# Altium integrated library Infineon_Microcontroller.IntLib: 721 symbols (part 45 of 66)
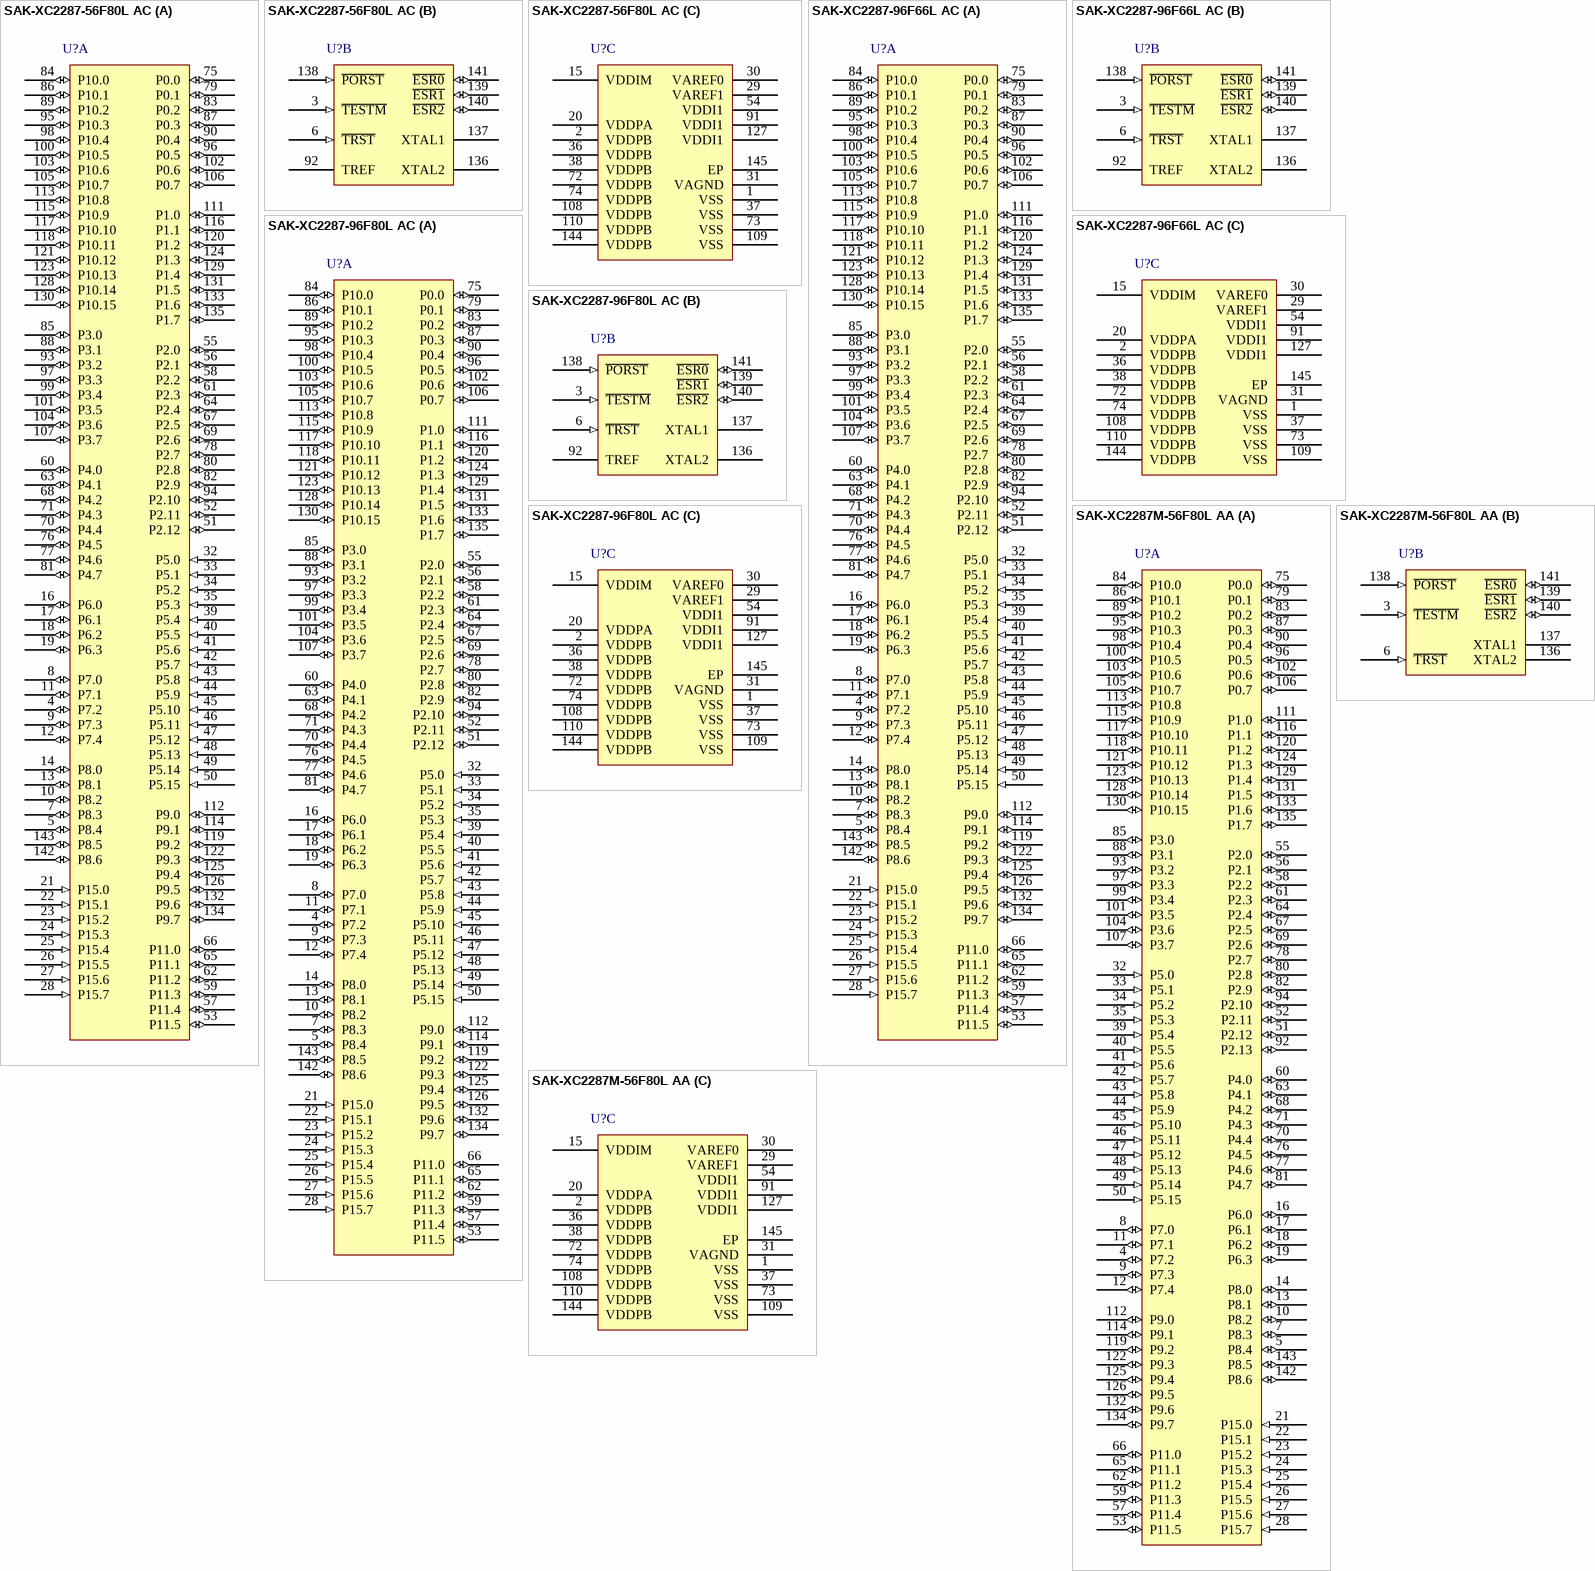
[diagram p162: symbols SAK-XC2287-56F80L AC to SAK-XC2287M-56F80L AA]

## SAK-XC2287-96F66L AC
designator U?
66 MHz XC2200 MCU with 768 KByte Program Memory, 82 KByte SRAM, 3 V, 5.5 V, -40 to 125 degC, PG-LQFP-144, Reel, Green; Manufacturer: Infineon; PartNumber: SAK-XC2287-96F66L AC; A / D input lines (incl. FADC): 24; CAN Nodes: 5; Digital I/O Lines: 118; DMA Channels: 8; DSP functionality (e.g MDU/MAC): TRUE; FlexRay TM: FALSE; Instruction width [bits]: 16/32; Max Clock Frequency: 66 MHz; Number of ADC Modules: 2; Power Modes: 3; Serial I/O Interfaces: 6; Timed I/O Pins (PWM-Ch,CAPCOM): 44; Timer / Counter: 15; Type of Memory: Flash; Type of Serial I/O Interfaces: SPI(6), LIN, UART, I2C, I2S; DatasheetVersion: Rev. 2.1; PackageVersion: V2.1, 08/2008; PackageReference: PG-LQFP-144-4; PackageDescription: 144-Pin Plastic Green Thin Quad Flat Package, Body 20 x 20 mm, Pitch 0.5 mm; Supplier 1: Digi-Key; Supplier Part Number 1: SAK-XC2287-96F66L AC-ND; E2PROM Emulation (Data-Flash): TRUE; External Bus interface: TRUE; Green: TRUE; Halogen-free: TRUE; I/O Operation Voltages: 3 V, 5.5 V; On-chip clock generation: TRUE; On-chip Voltage Regulator: TRUE; Oscillator Watchdog: TRUE; Packing: Reel; Program Memory: 768 KByte; Real Time Clock (RTC): TRUE; SRAM (incl. Cache): 82 KByte; Watchdog Timer: TRUE; Mounting Technology: Surface Mount; ComponentLink1Description: Manufacturer URL; ComponentLink1URL: http://www.infineon.com/; ComponentLink2Description: Datasheet; ComponentLink2URL: http://www.infineon.com/dgdl/xc228x_ds_v2.1_2008_08.pdf?folderId=db3a304412b407950112b408e8c90004&fileId=db3a304412b407950112b40937b40162; ComponentLink3Description: Package Specification; ComponentLink3URL: http://www.infineon.com/dgdl/xc228x_ds_v2.1_2008_08.pdf?folderId=db3a304412b407950112b408e8c90004&fileId=db3a304412b407950112b40937b40162&sId=db3a30433d956bc3013d9bbb42cd14dc
footprint INF-PG-LQFP-144-4_N (QFP, 144-Leads, Body 20x20mm, Pitch 0.5mm, Thermal Pad 6.5x6.5mm, IPC Medium Density)
footprint INF-PG-LQFP-144-4_L (QFP, 144-Leads, Body 20x20mm, Pitch 0.5mm, Thermal Pad 6.5x6.5mm, IPC High Density)
footprint INF-PG-LQFP-144-4_M (QFP, 144-Leads, Body 20x20mm, Pitch 0.5mm, Thermal Pad 6.5x6.5mm, IPC Low Density)
part A pins: 4 P7.2 (io), 5 P8.4 (io), 7 P8.3 (io), 8 P7.0 (io), 9 P7.3 (io), 10 P8.2 (io), 11 P7.1 (io), 12 P7.4 (io), 13 P8.1 (io), 14 P8.0 (io), 16 P6.0 (io), 17 P6.1 (io), 18 P6.2 (io), 19 P6.3 (io), 21 P15.0 (in), 22 P15.1 (in), 23 P15.2 (in), 24 P15.3 (in), 25 P15.4 (in), 26 P15.5 (in), 27 P15.6 (in), 28 P15.7 (in), 32 P5.0 (in), 33 P5.1 (in), 34 P5.2 (in), 35 P5.3 (in), 39 P5.4 (in), 40 P5.5 (in), 41 P5.6 (in), 42 P5.7 (in), 43 P5.8 (in), 44 P5.9 (in), 45 P5.10 (in), 46 P5.11 (in), 47 P5.12 (in), 48 P5.13 (in), 49 P5.14 (in), 50 P5.15 (in), 51 P2.12 (io), 52 P2.11 (io), 53 P11.5 (io) "Bit 5 of Port 11, General Purpose Input/Output", 55 P2.0 (io), 56 P2.1 (io), 57 P11.4 (io) "Bit 4 of Port 11, General Purpose Input/Output", 58 P2.2 (io), 59 P11.3 (io) "Bit 3 of Port 11, General Purpose Input/Output", 60 P4.0 (io), 61 P2.3 (io), 62 P11.2 (io), 63 P4.1 (io), 64 P2.4 (io), 65 P11.1 (io), 66 P11.0 (io), 67 P2.5 (io), 68 P4.2 (io), 69 P2.6 (io), 70 P4.4 (io), 71 P4.3 (io), 75 P0.0 (io), 76 P4.5 (io), 77 P4.6 (io), 78 P2.7 (io), 79 P0.1 (io), 80 P2.8 (io), 81 P4.7 (io), 82 P2.9 (io), 83 P0.2 (io), 84 P10.0 (io), 85 P3.0 (io), 86 P10.1 (io), 87 P0.3 (io), 88 P3.1 (io), 89 P10.2 (io), 90 P0.4 (io), 93 P3.2 (io), 94 P2.10 (io), 95 P10.3 (io), 96 P0.5 (io), 97 P3.3 (io), 98 P10.4 (io), 99 P3.4 (io), 100 P10.5 (io), 101 P3.5 (io), 102 P0.6 (io), 103 P10.6 (io), 104 P3.6 (io), 105 P10.7 (io), 106 P0.7 (io), 107 P3.7 (io), 111 P1.0 (io), 112 P9.0 (io), 113 P10.8 (io), 114 P9.1 (io), 115 P10.9 (io), 116 P1.1 (io), 117 P10.10 (io), 118 P10.11 (io), 119 P9.2 (io), 120 P1.2 (io), 121 P10.12 (io), 122 P9.3 (io), 123 P10.13 (io), 124 P1.3 (io), 125 P9.4 (io), 126 P9.5 (io), 128 P10.14 (io), 129 P1.4 (io), 130 P10.15 (io), 131 P1.5 (io), 132 P9.6 (io), 133 P1.6 (io), 134 P9.7 (io), 135 P1.7 (io), 142 P8.6 (io), 143 P8.5 (io)
part B pins: 3 ~{TESTM} (in) "Testmode Enable", 6 ~{TRST} (in) "Test-System Reset Input", 92 TREF "Control Pin for Core Voltage Generation", 136 XTAL2 "Crystal Oscillator Amplifier Output", 137 XTAL1 "Crystal Oscillator Amplifier Input", 138 ~{PORST} (in) "Power On Reset Input", 139 ~{ESR1} (io), 140 ~{ESR2} (io), 141 ~{ESR0} (io)
part C pins: 1 VSS (power) "Digital Ground", 2 VDDPB (power) "Digital Pad Supply Voltage for Domain B", 15 VDDIM (power) "Digital Core Supply Voltage for Domain M", 20 VDDPA (power) "Digital Pad Supply Voltage for Domain A", 29 VAREF1 (power) "Reference Voltage for A/D Converter ADC1", 30 VAREF0 (power) "Reference Voltage for A/D Converter ADC0", 31 VAGND (power) "Reference Ground for A/D Converters ADC0/1", 36 VDDPB (power) "Digital Pad Supply Voltage for Domain B", 37 VSS (power) "Digital Ground", 38 VDDPB (power) "Digital Pad Supply Voltage for Domain B", 54 VDDI1 (power) "Digital Core Supply Voltage for Domain 1", 72 VDDPB (power) "Digital Pad Supply Voltage for Domain B", 73 VSS (power) "Digital Ground", 74 VDDPB (power) "Digital Pad Supply Voltage for Domain B", 91 VDDI1 (power) "Digital Core Supply Voltage for Domain 1", 108 VDDPB (power) "Digital Pad Supply Voltage for Domain B", 109 VSS (power) "Digital Ground", 110 VDDPB (power) "Digital Pad Supply Voltage for Domain B", 127 VDDI1 (power) "Digital Core Supply Voltage for Domain 1", 144 VDDPB (power) "Digital Pad Supply Voltage for Domain B", 145 EP (power)

## SAK-XC2287-96F80L AC
designator U?
80 MHz XC2200 MCU with 768 KByte Program Memory, 82 KByte SRAM, 3 V, 5.5 V, -40 to 125 degC, PG-LQFP-144, Reel, Green; Manufacturer: Infineon; PartNumber: SAK-XC2287-96F80L AC; A / D input lines (incl. FADC): 24; CAN Nodes: 5; Digital I/O Lines: 118; DMA Channels: 8; DSP functionality (e.g MDU/MAC): TRUE; FlexRay TM: FALSE; Instruction width [bits]: 16/32; Max Clock Frequency: 80 MHz; Number of ADC Modules: 2; Power Modes: 3; Serial I/O Interfaces: 6; Timed I/O Pins (PWM-Ch,CAPCOM): 32; Timer / Counter: 15; Type of Memory: Flash; Type of Serial I/O Interfaces: SPI(6), LIN, UART, I2C, I2S; DatasheetVersion: Rev. 2.1; PackageVersion: V2.1, 08/2008; PackageReference: PG-LQFP-144-4; PackageDescription: 144-Pin Plastic Green Thin Quad Flat Package, Body 20 x 20 mm, Pitch 0.5 mm; Supplier 1: Mouser; Supplier Part Number 1: 726-AKXC228796F80LAC; Supplier 2: Digi-Key; Supplier Part Number 2: SAK-XC2287-96F80L AC-ND; E2PROM Emulation (Data-Flash): TRUE; External Bus interface: TRUE; Green: TRUE; Halogen-free: TRUE; I/O Operation Voltages: 3 V, 5.5 V; On-chip clock generation: TRUE; On-chip Voltage Regulator: TRUE; Oscillator Watchdog: TRUE; Packing: Reel; Program Memory: 768 KByte; Real Time Clock (RTC): TRUE; SRAM (incl. Cache): 82 KByte; Watchdog Timer: TRUE; Mounting Technology: Surface Mount; ComponentLink1Description: Manufacturer URL; ComponentLink1URL: http://www.infineon.com/; ComponentLink2Description: Datasheet; ComponentLink2URL: http://www.infineon.com/dgdl/xc228x_ds_v2.1_2008_08.pdf?folderId=db3a304412b407950112b408e8c90004&fileId=db3a304412b407950112b40937b40162; ComponentLink3Description: Package Specification; ComponentLink3URL: http://www.infineon.com/dgdl/xc228x_ds_v2.1_2008_08.pdf?folderId=db3a304412b407950112b408e8c90004&fileId=db3a304412b407950112b40937b40162&sId=db3a30433d956bc3013d9bbb42cd14dc
footprint INF-PG-LQFP-144-4_N (QFP, 144-Leads, Body 20x20mm, Pitch 0.5mm, Thermal Pad 6.5x6.5mm, IPC Medium Density)
footprint INF-PG-LQFP-144-4_L (QFP, 144-Leads, Body 20x20mm, Pitch 0.5mm, Thermal Pad 6.5x6.5mm, IPC High Density)
footprint INF-PG-LQFP-144-4_M (QFP, 144-Leads, Body 20x20mm, Pitch 0.5mm, Thermal Pad 6.5x6.5mm, IPC Low Density)
part A pins: 4 P7.2 (io), 5 P8.4 (io), 7 P8.3 (io), 8 P7.0 (io), 9 P7.3 (io), 10 P8.2 (io), 11 P7.1 (io), 12 P7.4 (io), 13 P8.1 (io), 14 P8.0 (io), 16 P6.0 (io), 17 P6.1 (io), 18 P6.2 (io), 19 P6.3 (io), 21 P15.0 (in), 22 P15.1 (in), 23 P15.2 (in), 24 P15.3 (in), 25 P15.4 (in), 26 P15.5 (in), 27 P15.6 (in), 28 P15.7 (in), 32 P5.0 (in), 33 P5.1 (in), 34 P5.2 (in), 35 P5.3 (in), 39 P5.4 (in), 40 P5.5 (in), 41 P5.6 (in), 42 P5.7 (in), 43 P5.8 (in), 44 P5.9 (in), 45 P5.10 (in), 46 P5.11 (in), 47 P5.12 (in), 48 P5.13 (in), 49 P5.14 (in), 50 P5.15 (in), 51 P2.12 (io), 52 P2.11 (io), 53 P11.5 (io) "Bit 5 of Port 11, General Purpose Input/Output", 55 P2.0 (io), 56 P2.1 (io), 57 P11.4 (io) "Bit 4 of Port 11, General Purpose Input/Output", 58 P2.2 (io), 59 P11.3 (io) "Bit 3 of Port 11, General Purpose Input/Output", 60 P4.0 (io), 61 P2.3 (io), 62 P11.2 (io), 63 P4.1 (io), 64 P2.4 (io), 65 P11.1 (io), 66 P11.0 (io), 67 P2.5 (io), 68 P4.2 (io), 69 P2.6 (io), 70 P4.4 (io), 71 P4.3 (io), 75 P0.0 (io), 76 P4.5 (io), 77 P4.6 (io), 78 P2.7 (io), 79 P0.1 (io), 80 P2.8 (io), 81 P4.7 (io), 82 P2.9 (io), 83 P0.2 (io), 84 P10.0 (io), 85 P3.0 (io), 86 P10.1 (io), 87 P0.3 (io), 88 P3.1 (io), 89 P10.2 (io), 90 P0.4 (io), 93 P3.2 (io), 94 P2.10 (io), 95 P10.3 (io), 96 P0.5 (io), 97 P3.3 (io), 98 P10.4 (io), 99 P3.4 (io), 100 P10.5 (io), 101 P3.5 (io), 102 P0.6 (io), 103 P10.6 (io), 104 P3.6 (io), 105 P10.7 (io), 106 P0.7 (io), 107 P3.7 (io), 111 P1.0 (io), 112 P9.0 (io), 113 P10.8 (io), 114 P9.1 (io), 115 P10.9 (io), 116 P1.1 (io), 117 P10.10 (io), 118 P10.11 (io), 119 P9.2 (io), 120 P1.2 (io), 121 P10.12 (io), 122 P9.3 (io), 123 P10.13 (io), 124 P1.3 (io), 125 P9.4 (io), 126 P9.5 (io), 128 P10.14 (io), 129 P1.4 (io), 130 P10.15 (io), 131 P1.5 (io), 132 P9.6 (io), 133 P1.6 (io), 134 P9.7 (io), 135 P1.7 (io), 142 P8.6 (io), 143 P8.5 (io)
part B pins: 3 ~{TESTM} (in) "Testmode Enable", 6 ~{TRST} (in) "Test-System Reset Input", 92 TREF "Control Pin for Core Voltage Generation", 136 XTAL2 "Crystal Oscillator Amplifier Output", 137 XTAL1 "Crystal Oscillator Amplifier Input", 138 ~{PORST} (in) "Power On Reset Input", 139 ~{ESR1} (io), 140 ~{ESR2} (io), 141 ~{ESR0} (io)
part C pins: 1 VSS (power) "Digital Ground", 2 VDDPB (power) "Digital Pad Supply Voltage for Domain B", 15 VDDIM (power) "Digital Core Supply Voltage for Domain M", 20 VDDPA (power) "Digital Pad Supply Voltage for Domain A", 29 VAREF1 (power) "Reference Voltage for A/D Converter ADC1", 30 VAREF0 (power) "Reference Voltage for A/D Converter ADC0", 31 VAGND (power) "Reference Ground for A/D Converters ADC0/1", 36 VDDPB (power) "Digital Pad Supply Voltage for Domain B", 37 VSS (power) "Digital Ground", 38 VDDPB (power) "Digital Pad Supply Voltage for Domain B", 54 VDDI1 (power) "Digital Core Supply Voltage for Domain 1", 72 VDDPB (power) "Digital Pad Supply Voltage for Domain B", 73 VSS (power) "Digital Ground", 74 VDDPB (power) "Digital Pad Supply Voltage for Domain B", 91 VDDI1 (power) "Digital Core Supply Voltage for Domain 1", 108 VDDPB (power) "Digital Pad Supply Voltage for Domain B", 109 VSS (power) "Digital Ground", 110 VDDPB (power) "Digital Pad Supply Voltage for Domain B", 127 VDDI1 (power) "Digital Core Supply Voltage for Domain 1", 144 VDDPB (power) "Digital Pad Supply Voltage for Domain B", 145 EP (power)

## SAK-XC2287M-56F80L AA
designator U?
80 MHz XC2200 MCU with 448 KByte Program Memory, 50 KByte SRAM, 3 V, 5.5 V, -40 to 125 degC, PG-LQFP-144, Reel, Green; Manufacturer: Infineon; PartNumber: SAK-XC2287M-56F80L AA; A / D input lines (incl. FADC): 24; CAN Nodes: 6; Digital I/O Lines: 118; DMA Channels: 8; DSP functionality (e.g MDU/MAC): TRUE; FlexRay TM: FALSE; Instruction width [bits]: 16/32; Max Clock Frequency: 80 MHz; Number of ADC Modules: 2; Power Modes: 3; Timed I/O Pins (PWM-Ch,CAPCOM): up to 44; Timer / Counter: 17; Type of Memory: Flash; Type of Serial I/O Interfaces: SPI(8), LIN, UART, I2C, I2S; DatasheetVersion: Rev. 2.1; PackageVersion: V2.1, 07/2011; PackageReference: PG-LQFP-144-13; PackageDescription: 144-Pin Plastic Green Thin Quad Flat Package, Body 20 x 20 mm, Pitch 0.5 mm; E2PROM Emulation (Data-Flash): TRUE; External Bus interface: TRUE; Green: TRUE; Halogen-free: FALSE; I/O Operation Voltages: 3 V, 5.5 V; On-chip clock generation: TRUE; On-chip Voltage Regulator: TRUE; Oscillator Watchdog: TRUE; Program Memory: 448 KByte; Real Time Clock (RTC): TRUE; Serial I/O Interfaces: 8; SRAM (incl. Cache): 50 KByte; Watchdog Timer: TRUE; Mounting Technology: Surface Mount; Code_JEDEC: J-STD-020C; ComponentLink1Description: Manufacturer URL; ComponentLink1URL: http://www.infineon.com/; ComponentLink2Description: Datasheet; ComponentLink2URL: http://www.infineon.com/dgdl/xc228xm_ds_v2.1_2011_07.pdf?folderId=db3a3043132679fb01133eb909a307c3&fileId=db3a30433580b371013581432e5e006b; ComponentLink3Description: Package Specification; ComponentLink3URL: http://www.infineon.com/dgdl/xc238xa_ds_v2+1_2011_07.pdf?folderId=db3a304412b407950112b409d4b00386&fileId=db3a3043353fdc16013557e024517b1e&sId=db3a30443d98b7f0013d9b8ad537024b
footprint INF-PG-LQFP-144-13_N (QFP, 144-Leads, Body 20x20mm, Pitch 0.5mm, Thermal Pad 6.5x6.5mm, IPC Medium Density)
footprint INF-PG-LQFP-144-13_L (QFP, 144-Leads, Body 20x20mm, Pitch 0.5mm, Thermal Pad 6.5x6.5mm, IPC High Density)
footprint INF-PG-LQFP-144-13_M (QFP, 144-Leads, Body 20x20mm, Pitch 0.5mm, Thermal Pad 6.5x6.5mm, IPC Low Density)
part A pins: 4 P7.2 (io), 5 P8.4 (io), 7 P8.3 (io), 8 P7.0 (io), 9 P7.3 (io), 10 P8.2 (io), 11 P7.1 (io), 12 P7.4 (io), 13 P8.1 (io), 14 P8.0 (io), 16 P6.0 (io), 17 P6.1 (io), 18 P6.2 (io), 19 P6.3 (io), 21 P15.0 (in), 22 P15.1 (in), 23 P15.2 (in), 24 P15.3 (in), 25 P15.4 (in), 26 P15.5 (in), 27 P15.6 (in), 28 P15.7 (in), 32 P5.0 (in), 33 P5.1 (in), 34 P5.2 (in), 35 P5.3 (in), 39 P5.4 (in), 40 P5.5 (in), 41 P5.6 (in), 42 P5.7 (in), 43 P5.8 (in), 44 P5.9 (in), 45 P5.10 (in), 46 P5.11 (in), 47 P5.12 (in), 48 P5.13 (in), 49 P5.14 (in), 50 P5.15 (in), 51 P2.12 (io), 52 P2.11 (io), 53 P11.5 (io), 55 P2.0 (io), 56 P2.1 (io), 57 P11.4 (io), 58 P2.2 (io), 59 P11.3 (io), 60 P4.0 (io), 61 P2.3 (io), 62 P11.2 (io), 63 P4.1 (io), 64 P2.4 (io), 65 P11.1 (io), 66 P11.0 (io), 67 P2.5 (io), 68 P4.2 (io), 69 P2.6 (io), 70 P4.4 (io), 71 P4.3 (io), 75 P0.0 (io), 76 P4.5 (io), 77 P4.6 (io), 78 P2.7 (io), 79 P0.1 (io), 80 P2.8 (io), 81 P4.7 (io), 82 P2.9 (io), 83 P0.2 (io), 84 P10.0 (io), 85 P3.0 (io), 86 P10.1 (io), 87 P0.3 (io), 88 P3.1 (io), 89 P10.2 (io), 90 P0.4 (io), 92 P2.13 (io), 93 P3.2 (io), 94 P2.10 (io), 95 P10.3 (io), 96 P0.5 (io), 97 P3.3 (io), 98 P10.4 (io), 99 P3.4 (io), 100 P10.5 (io), 101 P3.5 (io), 102 P0.6 (io), 103 P10.6 (io), 104 P3.6 (io), 105 P10.7 (io), 106 P0.7 (io), 107 P3.7 (io), 111 P1.0 (io), 112 P9.0 (io), 113 P10.8 (io), 114 P9.1 (io), 115 P10.9 (io), 116 P1.1 (io), 117 P10.10 (io), 118 P10.11 (io), 119 P9.2 (io), 120 P1.2 (io), 121 P10.12 (io), 122 P9.3 (io), 123 P10.13 (io), 124 P1.3 (io), 125 P9.4 (io), 126 P9.5 (io), 128 P10.14 (io), 129 P1.4 (io), 130 P10.15 (io), 131 P1.5 (io), 132 P9.6 (io), 133 P1.6 (io), 134 P9.7 (io), 135 P1.7 (io), 142 P8.6 (io), 143 P8.5 (io)
part B pins: 3 ~{TESTM} (in) "Testmode Enable", 6 ~{TRST} (in) "Test-System Reset Input", 136 XTAL2 "Crystal Oscillator Amplifier Output", 137 XTAL1, 138 ~{PORST} (in) "Power On Reset Input", 139 ~{ESR1} (io), 140 ~{ESR2} (io), 141 ~{ESR0} (io)
part C pins: 1 VSS (power) "Digital Ground.", 2 VDDPB (power) "Digital Pad Supply Voltage for Domain B.", 15 VDDIM (power) "Digital Core Supply Voltage for Domain M", 20 VDDPA (power) "Digital Pad Supply Voltage for Domain A.", 29 VAREF1 (power) "Reference Voltage for A/D Converter ADC1", 30 VAREF0 (power) "Reference Voltage for A/D Converter ADC0", 31 VAGND (power) "Reference Ground for A/D Converters ADC0/1", 36 VDDPB (power) "Digital Pad Supply Voltage for Domain B.", 37 VSS (power) "Digital Ground.", 38 VDDPB (power) "Digital Pad Supply Voltage for Domain B.", 54 VDDI1 (power) "Digital Core Supply Voltage for Domain 1", 72 VDDPB (power) "Digital Pad Supply Voltage for Domain B.", 73 VSS (power) "Digital Ground.", 74 VDDPB (power) "Digital Pad Supply Voltage for Domain B.", 91 VDDI1 (power) "Digital Core Supply Voltage for Domain 1", 108 VDDPB (power) "Digital Pad Supply Voltage for Domain B.", 109 VSS (power) "Digital Ground.", 110 VDDPB (power) "Digital Pad Supply Voltage for Domain B.", 127 VDDI1 (power) "Digital Core Supply Voltage for Domain 1", 144 VDDPB (power) "Digital Pad Supply Voltage for Domain B.", 145 EP (power)

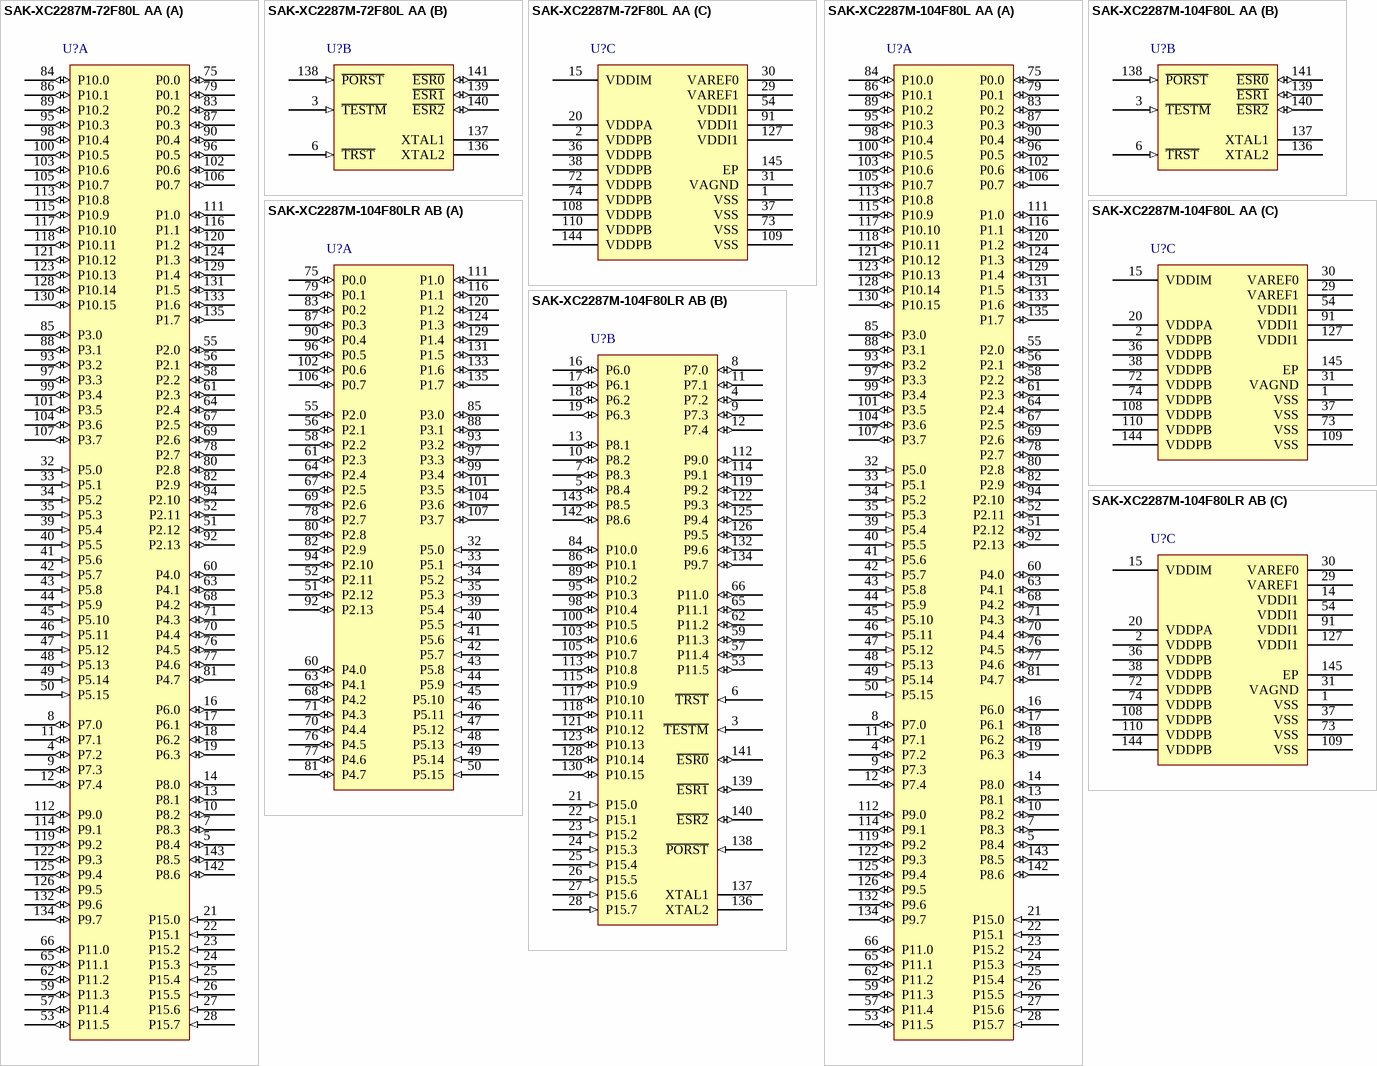
[diagram p80: symbols SAK-XC2287M-72F80L AA to SAK-XC2287M-104F80LR AB]

## SAK-XC2287M-72F80L AA
designator U?
80 MHz XC2200 MCU with 576 KByte Program Memory, 50 KByte SRAM, 3 V, 5.5 V, -40 to 125 degC, PG-LQFP-144, Reel, Green; Manufacturer: Infineon; PartNumber: SAK-XC2287M-72F80L AA; A / D input lines (incl. FADC): 24; CAN Nodes: 5; Digital I/O Lines: 118; DMA Channels: 8; DSP functionality (e.g MDU/MAC): TRUE; FlexRay TM: FALSE; Instruction width [bits]: 16/32; Max Clock Frequency: 80 MHz; Number of ADC Modules: 2; Power Modes: 3; Serial I/O Interfaces: 6; Timed I/O Pins (PWM-Ch,CAPCOM): 32; Timer / Counter: 15; Type of Memory: Flash; Type of Serial I/O Interfaces: SPI(6), LIN, UART, I2C, I2S; DatasheetVersion: Rev. 2.1; PackageVersion: V2.1, 07/2011; PackageReference: PG-LQFP-144-13; PackageDescription: 144-Pin Plastic Green Thin Quad Flat Package, Body 20 x 20 mm, Pitch 0.5 mm; Supplier 1: Digi-Key; Supplier Part Number 1: SAK-XC2287M-72F80L AA-ND; E2PROM Emulation (Data-Flash): TRUE; External Bus interface: TRUE; Green: TRUE; Halogen-free: TRUE; I/O Operation Voltages: 3 V, 5.5 V; On-chip clock generation: TRUE; On-chip Voltage Regulator: TRUE; Oscillator Watchdog: TRUE; Packing: Reel; Program Memory: 576 KByte; Real Time Clock (RTC): TRUE; SRAM (incl. Cache): 50 KByte; Watchdog Timer: TRUE; Mounting Technology: Surface Mount; Code_JEDEC: J-STD-020C; ComponentLink1Description: Manufacturer URL; ComponentLink1URL: http://www.infineon.com/; ComponentLink2Description: Datasheet; ComponentLink2URL: http://www.infineon.com/dgdl/xc228xm_ds_v2.1_2011_07.pdf?folderId=db3a3043132679fb01133eb909a307c3&fileId=db3a30433580b371013581432e5e006b; ComponentLink3Description: Package Specification; ComponentLink3URL: http://www.infineon.com/dgdl/xc238xa_ds_v2+1_2011_07.pdf?folderId=db3a304412b407950112b409d4b00386&fileId=db3a3043353fdc16013557e024517b1e&sId=db3a30443d98b7f0013d9b8ad537024b
footprint INF-PG-LQFP-144-13_N (QFP, 144-Leads, Body 20x20mm, Pitch 0.5mm, Thermal Pad 6.5x6.5mm, IPC Medium Density)
footprint INF-PG-LQFP-144-13_L (QFP, 144-Leads, Body 20x20mm, Pitch 0.5mm, Thermal Pad 6.5x6.5mm, IPC High Density)
footprint INF-PG-LQFP-144-13_M (QFP, 144-Leads, Body 20x20mm, Pitch 0.5mm, Thermal Pad 6.5x6.5mm, IPC Low Density)
part A pins: 4 P7.2 (io), 5 P8.4 (io), 7 P8.3 (io), 8 P7.0 (io), 9 P7.3 (io), 10 P8.2 (io), 11 P7.1 (io), 12 P7.4 (io), 13 P8.1 (io), 14 P8.0 (io), 16 P6.0 (io), 17 P6.1 (io), 18 P6.2 (io), 19 P6.3 (io), 21 P15.0 (in), 22 P15.1 (in), 23 P15.2 (in), 24 P15.3 (in), 25 P15.4 (in), 26 P15.5 (in), 27 P15.6 (in), 28 P15.7 (in), 32 P5.0 (in), 33 P5.1 (in), 34 P5.2 (in), 35 P5.3 (in), 39 P5.4 (in), 40 P5.5 (in), 41 P5.6 (in), 42 P5.7 (in), 43 P5.8 (in), 44 P5.9 (in), 45 P5.10 (in), 46 P5.11 (in), 47 P5.12 (in), 48 P5.13 (in), 49 P5.14 (in), 50 P5.15 (in), 51 P2.12 (io), 52 P2.11 (io), 53 P11.5 (io), 55 P2.0 (io), 56 P2.1 (io), 57 P11.4 (io), 58 P2.2 (io), 59 P11.3 (io), 60 P4.0 (io), 61 P2.3 (io), 62 P11.2 (io), 63 P4.1 (io), 64 P2.4 (io), 65 P11.1 (io), 66 P11.0 (io), 67 P2.5 (io), 68 P4.2 (io), 69 P2.6 (io), 70 P4.4 (io), 71 P4.3 (io), 75 P0.0 (io), 76 P4.5 (io), 77 P4.6 (io), 78 P2.7 (io), 79 P0.1 (io), 80 P2.8 (io), 81 P4.7 (io), 82 P2.9 (io), 83 P0.2 (io), 84 P10.0 (io), 85 P3.0 (io), 86 P10.1 (io), 87 P0.3 (io), 88 P3.1 (io), 89 P10.2 (io), 90 P0.4 (io), 92 P2.13 (io), 93 P3.2 (io), 94 P2.10 (io), 95 P10.3 (io), 96 P0.5 (io), 97 P3.3 (io), 98 P10.4 (io), 99 P3.4 (io), 100 P10.5 (io), 101 P3.5 (io), 102 P0.6 (io), 103 P10.6 (io), 104 P3.6 (io), 105 P10.7 (io), 106 P0.7 (io), 107 P3.7 (io), 111 P1.0 (io), 112 P9.0 (io), 113 P10.8 (io), 114 P9.1 (io), 115 P10.9 (io), 116 P1.1 (io), 117 P10.10 (io), 118 P10.11 (io), 119 P9.2 (io), 120 P1.2 (io), 121 P10.12 (io), 122 P9.3 (io), 123 P10.13 (io), 124 P1.3 (io), 125 P9.4 (io), 126 P9.5 (io), 128 P10.14 (io), 129 P1.4 (io), 130 P10.15 (io), 131 P1.5 (io), 132 P9.6 (io), 133 P1.6 (io), 134 P9.7 (io), 135 P1.7 (io), 142 P8.6 (io), 143 P8.5 (io)
part B pins: 3 ~{TESTM} (in) "Testmode Enable", 6 ~{TRST} (in) "Test-System Reset Input", 136 XTAL2 "Crystal Oscillator Amplifier Output", 137 XTAL1, 138 ~{PORST} (in) "Power On Reset Input", 139 ~{ESR1} (io), 140 ~{ESR2} (io), 141 ~{ESR0} (io)
part C pins: 1 VSS (power) "Digital Ground.", 2 VDDPB (power) "Digital Pad Supply Voltage for Domain B.", 15 VDDIM (power) "Digital Core Supply Voltage for Domain M", 20 VDDPA (power) "Digital Pad Supply Voltage for Domain A.", 29 VAREF1 (power) "Reference Voltage for A/D Converter ADC1", 30 VAREF0 (power) "Reference Voltage for A/D Converter ADC0", 31 VAGND (power) "Reference Ground for A/D Converters ADC0/1", 36 VDDPB (power) "Digital Pad Supply Voltage for Domain B.", 37 VSS (power) "Digital Ground.", 38 VDDPB (power) "Digital Pad Supply Voltage for Domain B.", 54 VDDI1 (power) "Digital Core Supply Voltage for Domain 1", 72 VDDPB (power) "Digital Pad Supply Voltage for Domain B.", 73 VSS (power) "Digital Ground.", 74 VDDPB (power) "Digital Pad Supply Voltage for Domain B.", 91 VDDI1 (power) "Digital Core Supply Voltage for Domain 1", 108 VDDPB (power) "Digital Pad Supply Voltage for Domain B.", 109 VSS (power) "Digital Ground.", 110 VDDPB (power) "Digital Pad Supply Voltage for Domain B.", 127 VDDI1 (power) "Digital Core Supply Voltage for Domain 1", 144 VDDPB (power) "Digital Pad Supply Voltage for Domain B.", 145 EP (power)

## SAK-XC2287M-104F80L AA
designator U?
80 MHz XC2200 MCU with 832 KByte Program Memory, 50 KByte SRAM, 3 V, 5.5 V, -40 to 125 degC, PG-LQFP-144, Reel, Green; Manufacturer: Infineon; PartNumber: SAK-XC2287M-104F80L AA; A / D input lines (incl. FADC): 24; CAN Nodes: 6; Digital I/O Lines: 118; DMA Channels: 8; DSP functionality (e.g MDU/MAC): TRUE; FlexRay TM: FALSE; Instruction width [bits]: 16/32; Max Clock Frequency: 80 MHz; Number of ADC Modules: 2; Power Modes: 3; Serial I/O Interfaces: 4; Timed I/O Pins (PWM-Ch,CAPCOM): 32; Timer / Counter: 15; Type of Memory: Flash; Type of Serial I/O Interfaces: SPI(8), LIN, UART, I2C, I2S; DatasheetVersion: Rev. 2.1; PackageVersion: V2.1, 07/2011; PackageReference: PG-LQFP-144-13; PackageDescription: 144-Pin Plastic Green Thin Quad Flat Package, Body 20 x 20 mm, Pitch 0.5 mm; Supplier 1: Digi-Key; Supplier Part Number 1: SAK-XC2287M-104F80L AA-ND; E2PROM Emulation (Data-Flash): TRUE; External Bus interface: TRUE; Green: TRUE; Halogen-free: TRUE; I/O Operation Voltages: 3 V, 5.5 V; On-chip clock generation: TRUE; On-chip Voltage Regulator: TRUE; Oscillator Watchdog: TRUE; Packing: Reel; Program Memory: 832 KByte; Real Time Clock (RTC): TRUE; SRAM (incl. Cache): 50 KByte; Watchdog Timer: TRUE; Mounting Technology: Surface Mount; Code_JEDEC: J-STD-020C; ComponentLink1Description: Manufacturer URL; ComponentLink1URL: http://www.infineon.com/; ComponentLink2Description: Datasheet; ComponentLink2URL: http://www.infineon.com/dgdl/xc228xm_ds_v2.1_2011_07.pdf?folderId=db3a3043132679fb01133eb909a307c3&fileId=db3a30433580b371013581432e5e006b; ComponentLink3Description: Package Specification; ComponentLink3URL: http://www.infineon.com/dgdl/xc238xa_ds_v2+1_2011_07.pdf?folderId=db3a304412b407950112b409d4b00386&fileId=db3a3043353fdc16013557e024517b1e&sId=db3a30443d98b7f0013d9b8ad537024b
footprint INF-PG-LQFP-144-13_N (QFP, 144-Leads, Body 20x20mm, Pitch 0.5mm, Thermal Pad 6.5x6.5mm, IPC Medium Density)
footprint INF-PG-LQFP-144-13_L (QFP, 144-Leads, Body 20x20mm, Pitch 0.5mm, Thermal Pad 6.5x6.5mm, IPC High Density)
footprint INF-PG-LQFP-144-13_M (QFP, 144-Leads, Body 20x20mm, Pitch 0.5mm, Thermal Pad 6.5x6.5mm, IPC Low Density)
part A pins: 4 P7.2 (io), 5 P8.4 (io), 7 P8.3 (io), 8 P7.0 (io), 9 P7.3 (io), 10 P8.2 (io), 11 P7.1 (io), 12 P7.4 (io), 13 P8.1 (io), 14 P8.0 (io), 16 P6.0 (io), 17 P6.1 (io), 18 P6.2 (io), 19 P6.3 (io), 21 P15.0 (in), 22 P15.1 (in), 23 P15.2 (in), 24 P15.3 (in), 25 P15.4 (in), 26 P15.5 (in), 27 P15.6 (in), 28 P15.7 (in), 32 P5.0 (in), 33 P5.1 (in), 34 P5.2 (in), 35 P5.3 (in), 39 P5.4 (in), 40 P5.5 (in), 41 P5.6 (in), 42 P5.7 (in), 43 P5.8 (in), 44 P5.9 (in), 45 P5.10 (in), 46 P5.11 (in), 47 P5.12 (in), 48 P5.13 (in), 49 P5.14 (in), 50 P5.15 (in), 51 P2.12 (io), 52 P2.11 (io), 53 P11.5 (io), 55 P2.0 (io), 56 P2.1 (io), 57 P11.4 (io), 58 P2.2 (io), 59 P11.3 (io), 60 P4.0 (io), 61 P2.3 (io), 62 P11.2 (io), 63 P4.1 (io), 64 P2.4 (io), 65 P11.1 (io), 66 P11.0 (io), 67 P2.5 (io), 68 P4.2 (io), 69 P2.6 (io), 70 P4.4 (io), 71 P4.3 (io), 75 P0.0 (io), 76 P4.5 (io), 77 P4.6 (io), 78 P2.7 (io), 79 P0.1 (io), 80 P2.8 (io), 81 P4.7 (io), 82 P2.9 (io), 83 P0.2 (io), 84 P10.0 (io), 85 P3.0 (io), 86 P10.1 (io), 87 P0.3 (io), 88 P3.1 (io), 89 P10.2 (io), 90 P0.4 (io), 92 P2.13 (io), 93 P3.2 (io), 94 P2.10 (io), 95 P10.3 (io), 96 P0.5 (io), 97 P3.3 (io), 98 P10.4 (io), 99 P3.4 (io), 100 P10.5 (io), 101 P3.5 (io), 102 P0.6 (io), 103 P10.6 (io), 104 P3.6 (io), 105 P10.7 (io), 106 P0.7 (io), 107 P3.7 (io), 111 P1.0 (io), 112 P9.0 (io), 113 P10.8 (io), 114 P9.1 (io), 115 P10.9 (io), 116 P1.1 (io), 117 P10.10 (io), 118 P10.11 (io), 119 P9.2 (io), 120 P1.2 (io), 121 P10.12 (io), 122 P9.3 (io), 123 P10.13 (io), 124 P1.3 (io), 125 P9.4 (io), 126 P9.5 (io), 128 P10.14 (io), 129 P1.4 (io), 130 P10.15 (io), 131 P1.5 (io), 132 P9.6 (io), 133 P1.6 (io), 134 P9.7 (io), 135 P1.7 (io), 142 P8.6 (io), 143 P8.5 (io)
part B pins: 3 ~{TESTM} (in) "Testmode Enable", 6 ~{TRST} (in) "Test-System Reset Input", 136 XTAL2 "Crystal Oscillator Amplifier Output", 137 XTAL1, 138 ~{PORST} (in) "Power On Reset Input", 139 ~{ESR1} (io), 140 ~{ESR2} (io), 141 ~{ESR0} (io)
part C pins: 1 VSS (power) "Digital Ground.", 2 VDDPB (power) "Digital Pad Supply Voltage for Domain B.", 15 VDDIM (power) "Digital Core Supply Voltage for Domain M", 20 VDDPA (power) "Digital Pad Supply Voltage for Domain A.", 29 VAREF1 (power) "Reference Voltage for A/D Converter ADC1", 30 VAREF0 (power) "Reference Voltage for A/D Converter ADC0", 31 VAGND (power) "Reference Ground for A/D Converters ADC0/1", 36 VDDPB (power) "Digital Pad Supply Voltage for Domain B.", 37 VSS (power) "Digital Ground.", 38 VDDPB (power) "Digital Pad Supply Voltage for Domain B.", 54 VDDI1 (power) "Digital Core Supply Voltage for Domain 1", 72 VDDPB (power) "Digital Pad Supply Voltage for Domain B.", 73 VSS (power) "Digital Ground.", 74 VDDPB (power) "Digital Pad Supply Voltage for Domain B.", 91 VDDI1 (power) "Digital Core Supply Voltage for Domain 1", 108 VDDPB (power) "Digital Pad Supply Voltage for Domain B.", 109 VSS (power) "Digital Ground.", 110 VDDPB (power) "Digital Pad Supply Voltage for Domain B.", 127 VDDI1 (power) "Digital Core Supply Voltage for Domain 1", 144 VDDPB (power) "Digital Pad Supply Voltage for Domain B.", 145 EP (power)

## SAK-XC2287M-104F80LR AB
designator U?
80 MHz XC2000 MCU with 832 KByte Program Memory, 50 KByte SRAM, 3.3 V, -40 to 125 degC, PG-LQFP-144, Reel, Green; Manufacturer: Infineon; PartNumber: SAK-XC2287M-104F80LR AB; A / D input lines (incl. FADC): 24; CAN Nodes: 6; Digital I/O Lines: 118; DMA Channels: 8; DSP functionality (e.g MDU/MAC): TRUE; FlexRayTM: FLASE; I/O Operation Voltages: 3.3 V; Instruction width [bits]: 16/32; Max Clock Frequency: 80 MHz; Number of ADC Modules: 2; Power Modes: 3; Timed I/O Pins (PWM-Ch,CAPCOM): up to 44; Timer / Counter: 17; Type of Memory: Flash; Type of Serial I/O Interfaces: UART; DatasheetVersion: Rev. 2.1; PackageReference: PG-LQFP-144-18; PackageDescription: 144-Pin Plastic (Green) Low Profile Quad Flat Package, 20 x 20 mm Body, 0.5 mm Pitch; E2PROM Emulation (Data-Flash): TRUE; External Bus interface: TRUE; Green: TRUE; Halogen-free: TRUE; On-chip clock generation: TRUE; On-chip Voltage Regulator: TRUE; Oscillator Watchdog: TRUE; Packing: Reel; Program Memory: 832 KByte; Real Time Clock (RTC): TRUE; Serial I/O Interfaces: 8; SRAM (incl. Cache): 50 KByte; Watchdog Timer: TRUE; Mounting Technology: Surface Mount; ComponentLink1Description: Manufacturer URL; ComponentLink1URL: http://www.infineon.com/; ComponentLink2Description: Datasheet; ComponentLink2URL: http://www.infineon.com/dgdl/xc228xm_ds_v2.1_2011_07.pdf?folderId=db3a3043132679fb01133eb909a307c3&fileId=db3a30433580b371013581432e5e006b; ComponentLink3Description: Package Specification; ComponentLink3URL: http://www.infineon.com/cms/packages/SMD_-_Surface_Mounted_Devices/P-PG-LQFP/P-PG-LQFP-144-04x_13x_14x_15x_16x_18x_23.html?__locale=en
footprint INF-PG-LQFP-144-18-6500X6500TP_N (QFP, 144-Leads, Body 20x20mm, Pitch 0.5mm, Thermal Pad 6.5x6.5mm, IPC Medium Density)
footprint INF-PG-LQFP-144-18-6500X6500TP_L (QFP, 144-Leads, Body 20x20mm, Pitch 0.5mm, Thermal Pad 6.5x6.5mm, IPC High Density)
footprint INF-PG-LQFP-144-18-6500X6500TP_M (QFP, 144-Leads, Body 20x20mm, Pitch 0.5mm, Thermal Pad 6.5x6.5mm, IPC Low Density)
part A pins: 32 P5.0 (in), 33 P5.1 (in), 34 P5.2 (in), 35 P5.3 (in), 39 P5.4 (in), 40 P5.5 (in), 41 P5.6 (in), 42 P5.7 (in), 43 P5.8 (in), 44 P5.9 (in), 45 P5.10 (in), 46 P5.11 (in), 47 P5.12 (in), 48 P5.13 (in), 49 P5.14 (in), 50 P5.15 (in), 51 P2.12 (io), 52 P2.11 (io), 55 P2.0 (io), 56 P2.1 (io), 58 P2.2 (io), 60 P4.0 (io), 61 P2.3 (io), 63 P4.1 (io), 64 P2.4 (io), 67 P2.5 (io), 68 P4.2 (io), 69 P2.6 (io), 70 P4.4 (io), 71 P4.3 (io), 75 P0.0 (io), 76 P4.5 (io), 77 P4.6 (io), 78 P2.7 (io), 79 P0.1 (io), 80 P2.8 (io), 81 P4.7 (io), 82 P2.9 (io), 83 P0.2 (io), 85 P3.0 (io), 87 P0.3 (io), 88 P3.1 (io), 90 P0.4 (io), 92 P2.13 (io), 93 P3.2 (io), 94 P2.10 (io), 96 P0.5 (io), 97 P3.3 (io), 99 P3.4 (io), 101 P3.5 (io), 102 P0.6 (io), 104 P3.6 (io), 106 P0.7 (io), 107 P3.7 (io), 111 P1.0 (io), 116 P1.1 (io), 120 P1.2 (io), 124 P1.3 (io), 129 P1.4 (io), 131 P1.5 (io), 133 P1.6 (io), 135 P1.7 (io)
part B pins: 3 ~{TESTM} (in) "Testmode Enable", 4 P7.2 (io), 5 P8.4 (io), 6 ~{TRST} (in) "Test-System Reset Input", 7 P8.3 (io), 8 P7.0 (io), 9 P7.3 (io), 10 P8.2 (io), 11 P7.1 (io), 12 P7.4 (io), 13 P8.1 (io), 16 P6.0 (io), 17 P6.1 (io), 18 P6.2 (io), 19 P6.3 (io), 21 P15.0 (in), 22 P15.1 (in), 23 P15.2 (in), 24 P15.3 (in), 25 P15.4 (in), 26 P15.5 (in), 27 P15.6 (in), 28 P15.7 (in), 53 P11.5 (io), 57 P11.4 (io), 59 P11.3 (io), 62 P11.2 (io), 65 P11.1 (io), 66 P11.0 (io), 84 P10.0 (io), 86 P10.1 (io), 89 P10.2 (io), 95 P10.3 (io), 98 P10.4 (io), 100 P10.5 (io), 103 P10.6 (io), 105 P10.7 (io), 112 P9.0 (io), 113 P10.8 (io), 114 P9.1 (io), 115 P10.9 (io), 117 P10.10 (io), 118 P10.11 (io), 119 P9.2 (io), 121 P10.12 (io), 122 P9.3 (io), 123 P10.13 (io), 125 P9.4 (io), 126 P9.5 (io), 128 P10.14 (io), 130 P10.15 (io), 132 P9.6 (io), 134 P9.7 (io), 136 XTAL2 "Crystal Oscillator Amplifier Output", 137 XTAL1, 138 ~{PORST} (in) "Power On Reset Input", 139 ~{ESR1} (io), 140 ~{ESR2} (io), 141 ~{ESR0} (io), 142 P8.6 (io), 143 P8.5 (io)
part C pins: 1 VSS (power) "Digital Ground", 2 VDDPB (power) "Digital Pad Supply Voltage for Domain B", 14 VDDI1 (power) "Digital Core Supply Voltage for Domain 1", 15 VDDIM (power) "Digital Core Supply Voltage for Domain M", 20 VDDPA (power) "Digital Pad Supply Voltage for Domain A", 29 VAREF1 (power) "Reference Voltage for A/D Converter ADC1", 30 VAREF0 (power) "Reference Voltage for A/D Converter ADC0", 31 VAGND (power) "Reference Ground for A/D Converters ADC0/1", 36 VDDPB (power) "Digital Pad Supply Voltage for Domain B", 37 VSS (power) "Digital Ground", 38 VDDPB (power) "Digital Pad Supply Voltage for Domain B", 54 VDDI1 (power) "Digital Core Supply Voltage for Domain 1", 72 VDDPB (power) "Digital Pad Supply Voltage for Domain B", 73 VSS (power) "Digital Ground", 74 VDDPB (power) "Digital Pad Supply Voltage for Domain B", 91 VDDI1 (power) "Digital Core Supply Voltage for Domain 1", 108 VDDPB (power) "Digital Pad Supply Voltage for Domain B", 109 VSS (power) "Digital Ground", 110 VDDPB (power) "Digital Pad Supply Voltage for Domain B", 127 VDDI1 (power) "Digital Core Supply Voltage for Domain 1", 144 VDDPB (power) "Digital Pad Supply Voltage for Domain B", 145 EP (power)

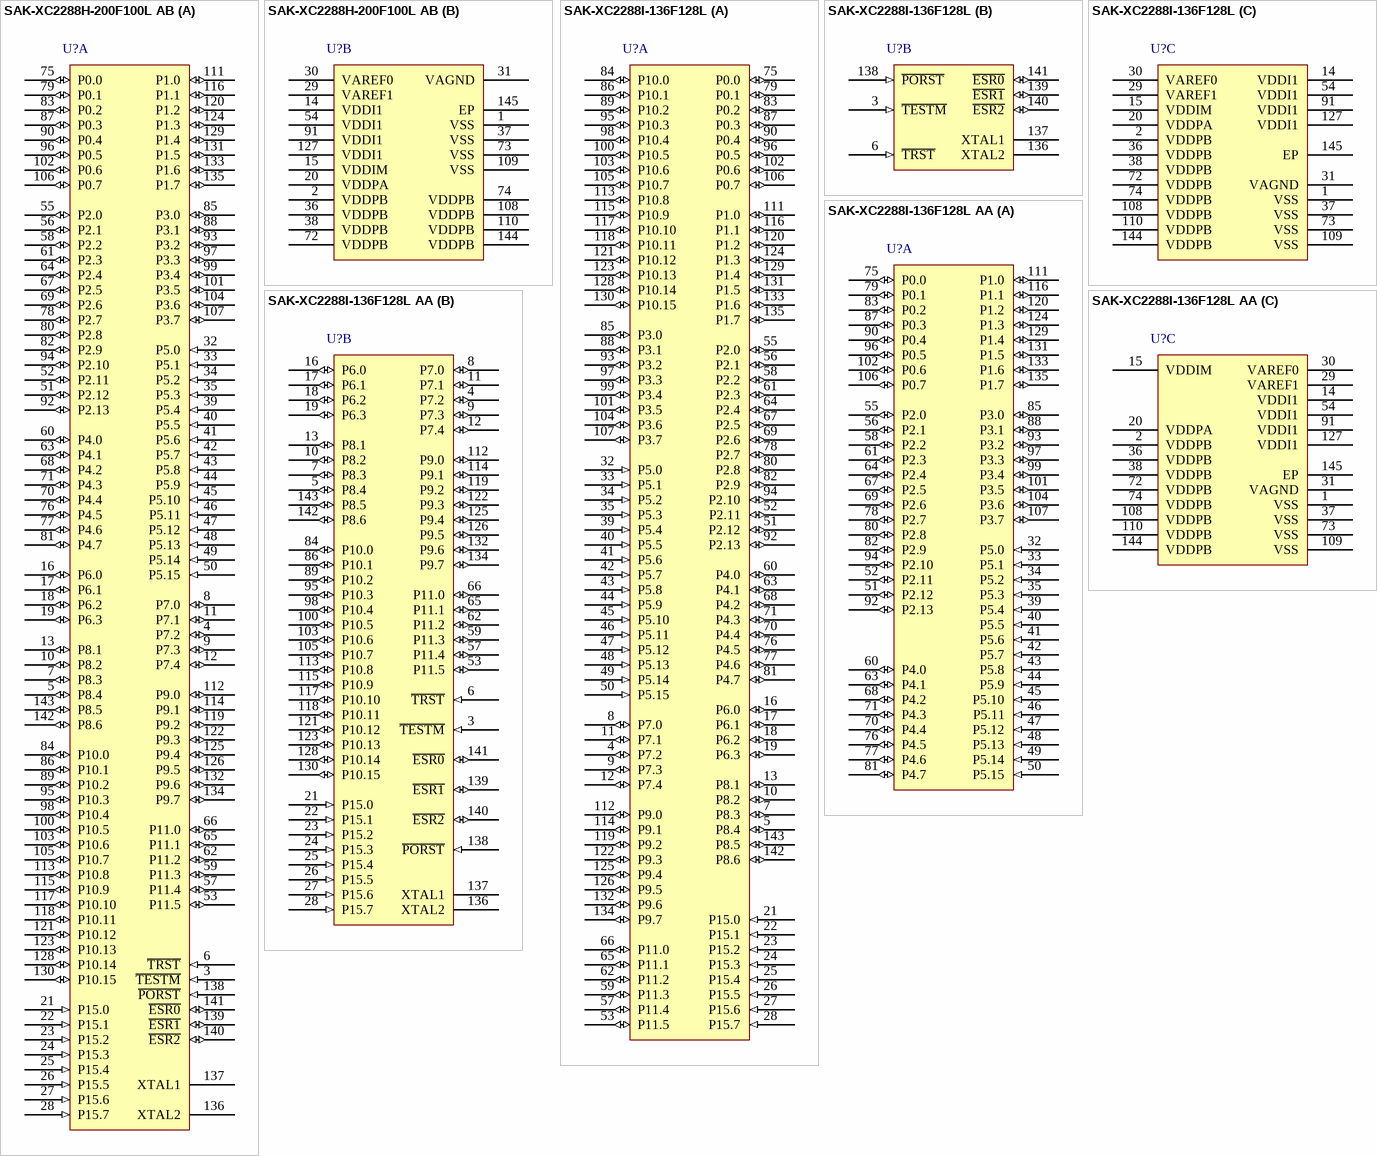
[diagram p81: symbols SAK-XC2288H-200F100L AB to SAK-XC2288I-136F128L AA]

## SAK-XC2288H-200F100L AB
designator U?
100 MHz XC2200 MCU with 1,600 KByte Program Memory, 138 KByte SRAM, 3 V, 5.5 V, -40 to 125 degC, PG-LQFP-144, Reel, Green; Manufacturer: Infineon; PartNumber: SAK-XC2288H-200F100L AB; A / D input lines (incl. FADC): 24; CAN Nodes: 6; Digital I/O Lines: 118; DMA Channels: 8; DSP functionality (e.g MDU/MAC): TRUE; FlexRay TM: FALSE; Instruction width [bits]: 16/32; Max Clock Frequency: 100 MHz; Number of ADC Modules: 2; Power Modes: 3; Serial I/O Interfaces: 10; Timed I/O Pins (PWM-Ch,CAPCOM): up to 44; Timer / Counter: 19; Type of Memory: Flash; Type of Serial I/O Interfaces: SPI(10), LIN, UART, I2C, I2S; DatasheetVersion: Rev. 1.3; PackageVersion: V2.1, 07/2011; PackageReference: PG-LQFP-144-13; PackageDescription: 144-Pin Plastic Green Thin Quad Flat Package, Body 20 x 20 mm, Pitch 0.5 mm; Supplier 1: Mouser; Supplier Part Number 1: 726-KXC2288H200F100B; Supplier 2: Digi-Key; Supplier Part Number 2: SAK-XC2288H-200F100L AB-ND; E2PROM Emulation (Data-Flash): TRUE; External Bus interface: TRUE; Green: TRUE; Halogen-free: TRUE; I/O Operation Voltages: 3 V, 5.5 V; On-chip clock generation: TRUE; On-chip Voltage Regulator: TRUE; Oscillator Watchdog: TRUE; Packing: Reel; Program Memory: 1,600 KByte; Real Time Clock (RTC): TRUE; SRAM (incl. Cache): 138 KByte; Watchdog Timer: TRUE; Mounting Technology: Surface Mount; Code_JEDEC: J-STD-020C; ComponentLink1Description: Manufacturer URL; ComponentLink1URL: http://www.infineon.com/; ComponentLink2Description: Datasheet; ComponentLink2URL: http://www.infineon.com/dgdl/xc228xh_ds_v1.3_2011_07.pdf?folderId=db3a3043132679fb01133eb909a307c3&fileId=db3a304328c6bd5c012911cdd8870961; ComponentLink3Description: Package Specification; ComponentLink3URL: http://www.infineon.com/dgdl/xc238xa_ds_v2+1_2011_07.pdf?folderId=db3a304412b407950112b409d4b00386&fileId=db3a3043353fdc16013557e024517b1e&sId=db3a30443d98b7f0013d9b8ad537024b
footprint INF-PG-LQFP-144-13_N (QFP, 144-Leads, Body 20x20mm, Pitch 0.5mm, Thermal Pad 6.5x6.5mm, IPC Medium Density)
footprint INF-PG-LQFP-144-13_L (QFP, 144-Leads, Body 20x20mm, Pitch 0.5mm, Thermal Pad 6.5x6.5mm, IPC High Density)
footprint INF-PG-LQFP-144-13_M (QFP, 144-Leads, Body 20x20mm, Pitch 0.5mm, Thermal Pad 6.5x6.5mm, IPC Low Density)
part A pins: 3 ~{TESTM} (in) "Testmode Enable", 4 P7.2 (io), 5 P8.4 (io), 6 ~{TRST} (in) "Test-System Reset Input", 7 P8.3 (io), 8 P7.0 (io), 9 P7.3 (io), 10 P8.2 (io), 11 P7.1 (io), 12 P7.4 (io), 13 P8.1 (io), 16 P6.0 (io), 17 P6.1 (io), 18 P6.2 (io), 19 P6.3 (io), 21 P15.0 (in), 22 P15.1 (in), 23 P15.2 (in), 24 P15.3 (in), 25 P15.4 (in), 26 P15.5 (in), 27 P15.6 (in), 28 P15.7 (in), 32 P5.0 (in), 33 P5.1 (in), 34 P5.2 (in), 35 P5.3 (in), 39 P5.4 (in), 40 P5.5 (in), 41 P5.6 (in), 42 P5.7 (in), 43 P5.8 (in), 44 P5.9 (in), 45 P5.10 (in), 46 P5.11 (in), 47 P5.12 (in), 48 P5.13 (in), 49 P5.14 (in), 50 P5.15 (in), 51 P2.12 (io), 52 P2.11 (io), 53 P11.5 (io), 55 P2.0 (io), 56 P2.1 (io), 57 P11.4 (io), 58 P2.2 (io), 59 P11.3 (io), 60 P4.0 (io), 61 P2.3 (io), 62 P11.2 (io), 63 P4.1 (io), 64 P2.4 (io), 65 P11.1 (io), 66 P11.0 (io), 67 P2.5 (io), 68 P4.2 (io), 69 P2.6 (io), 70 P4.4 (io), 71 P4.3 (io), 75 P0.0 (io), 76 P4.5 (io), 77 P4.6 (io), 78 P2.7 (io), 79 P0.1 (io), 80 P2.8 (io), 81 P4.7 (io), 82 P2.9 (io), 83 P0.2 (io), 84 P10.0 (io), 85 P3.0 (io), 86 P10.1 (io), 87 P0.3 (io), 88 P3.1 (io), 89 P10.2 (io), 90 P0.4 (io), 92 P2.13 (io), 93 P3.2 (io), 94 P2.10 (io), 95 P10.3 (io), 96 P0.5 (io), 97 P3.3 (io), 98 P10.4 (io), 99 P3.4 (io), 100 P10.5 (io), 101 P3.5 (io), 102 P0.6 (io), 103 P10.6 (io), 104 P3.6 (io), 105 P10.7 (io), 106 P0.7 (io), 107 P3.7 (io), 111 P1.0 (io), 112 P9.0 (io), 113 P10.8 (io), 114 P9.1 (io), 115 P10.9 (io), 116 P1.1 (io), 117 P10.10 (io), 118 P10.11 (io), 119 P9.2 (io), 120 P1.2 (io), 121 P10.12 (io), 122 P9.3 (io), 123 P10.13 (io), 124 P1.3 (io), 125 P9.4 (io), 126 P9.5 (io), 128 P10.14 (io), 129 P1.4 (io), 130 P10.15 (io), 131 P1.5 (io), 132 P9.6 (io), 133 P1.6 (io), 134 P9.7 (io), 135 P1.7 (io), 136 XTAL2 "Crystal Oscillator Amplifier Output", 137 XTAL1, 138 ~{PORST} (in) "Power On Reset Input", 139 ~{ESR1} (io), 140 ~{ESR2} (io), 141 ~{ESR0} (io), 142 P8.6 (io), 143 P8.5 (io)
part B pins: 1 VSS (power) "Digital Ground", 2 VDDPB (power) "Digital Pad Supply Voltage for Domain B", 14 VDDI1 (power) "Digital Core Supply Voltage for Domain 1", 15 VDDIM (power) "Digital Core Supply Voltage for Domain M", 20 VDDPA (power) "Digital Pad Supply Voltage for Domain A", 29 VAREF1 (power) "Reference Voltage for A/D Converter ADC1", 30 VAREF0 (power) "Reference Voltage for A/D Converter ADC0", 31 VAGND (power) "Reference Ground for A/D Converters ADC0/1", 36 VDDPB (power) "Digital Pad Supply Voltage for Domain B", 37 VSS (power) "Digital Ground", 38 VDDPB (power) "Digital Pad Supply Voltage for Domain B", 54 VDDI1 (power) "Digital Core Supply Voltage for Domain 2", 72 VDDPB (power) "Digital Pad Supply Voltage for Domain B", 73 VSS (power) "Digital Ground", 74 VDDPB (power) "Digital Pad Supply Voltage for Domain B", 91 VDDI1 (power) "Digital Core Supply Voltage for Domain 3", 108 VDDPB (power) "Digital Pad Supply Voltage for Domain B", 109 VSS (power) "Digital Ground", 110 VDDPB (power) "Digital Pad Supply Voltage for Domain B", 127 VDDI1 (power) "Digital Core Supply Voltage for Domain 4", 144 VDDPB (power) "Digital Pad Supply Voltage for Domain B", 145 EP (power) "Connected internally to VSS."

## SAK-XC2288I-136F128L
designator U?
128 MHz XC2200 MCU with 1088 KByte Program Memory, 90 KByte SRAM, 3 V, 5.5 V, -40 to 125 degC, PG-LQFP-144, Green; Manufacturer: Infineon; PartNumber: SAK-XC2288I-136F128L; A / D input lines (incl. FADC): 28; CAN Nodes: 6; Digital I/O Lines: 118; DMA Channels: 16; DSP functionality (e.g MDU/MAC): TRUE; FlexRay TM: FALSE; Instruction width [bits]: 16/32; Max Clock Frequency: 128 MHz; Number of ADC Modules: 2; Power Modes: 3; Program Memory: 1,088 KByte; Serial I/O Interfaces: 10; Timed I/O Pins (PWM-Ch,CAPCOM): up to 44; Timer / Counter: 17; Type of Memory: Flash; Type of Serial I/O Interfaces: SPI(10), LIN, UART, I2C, I2S; DatasheetVersion: Rev. 1.2; PackageVersion: V1.2, 06/2012; PackageReference: PG-LQFP-144-16; PackageDescription: 144-Pin Plastic Green Thin Quad Flat Package, Body 20 x 20 mm, Pitch 0.5 mm; E2PROM Emulation (Data-Flash): TRUE; External Bus interface: TRUE; Green: TRUE; I/O Operation Voltages: 3 V, 5.5 V; On-chip clock generation: TRUE; On-chip Voltage Regulator: TRUE; Oscillator Watchdog: TRUE; Real Time Clock (RTC): TRUE; SRAM (incl. Cache): 90 KByte; Watchdog Timer: TRUE; Mounting Technology: Surface Mount; Code_JEDEC: J-STD-020C; ComponentLink1Description: Manufacturer URL; ComponentLink1URL: http://www.infineon.com/; ComponentLink2Description: Datasheet; ComponentLink2URL: http://www.infineon.com/dgdl/xc228xi_ds_V1.2_2012_06.pdf?folderId=db3a3043132679fb01133eb909a307c3&fileId=db3a304333227b5e0133404db62c1cd4; ComponentLink3Description: Package Specification; ComponentLink3URL: http://www.infineon.com/dgdl/xc228xi_ds_V1.2_2012_06.pdf?folderId=db3a3043132679fb01133eb909a307c3&fileId=db3a304333227b5e0133404db62c1cd4&sId=db3a30433d956bc3013d9f37c38628d5
footprint INF-PG-LQFP-144-16_N (QFP, 144-Leads, Body 20x20mm, Pitch 0.5mm, Thermal Pad 7.5x7.5mm, IPC Medium Density)
footprint INF-PG-LQFP-144-16_L (QFP, 144-Leads, Body 20x20mm, Pitch 0.5mm, Thermal Pad 7.5x7.5mm, IPC High Density)
footprint INF-PG-LQFP-144-16_M (QFP, 144-Leads, Body 20x20mm, Pitch 0.5mm, Thermal Pad 7.5x7.5mm, IPC Low Density)
part A pins: 4 P7.2 (io), 5 P8.4 (io), 7 P8.3 (io), 8 P7.0 (io), 9 P7.3 (io), 10 P8.2 (io), 11 P7.1 (io), 12 P7.4 (io), 13 P8.1 (io), 16 P6.0 (io), 17 P6.1 (io), 18 P6.2 (io), 19 P6.3 (io), 21 P15.0 (in), 22 P15.1 (in), 23 P15.2 (in), 24 P15.3 (in), 25 P15.4 (in), 26 P15.5 (in), 27 P15.6 (in), 28 P15.7 (in), 32 P5.0 (in), 33 P5.1 (in), 34 P5.2 (in), 35 P5.3 (in), 39 P5.4 (in), 40 P5.5 (in), 41 P5.6 (in), 42 P5.7 (in), 43 P5.8 (in), 44 P5.9 (in), 45 P5.10 (in), 46 P5.11 (in), 47 P5.12 (in), 48 P5.13 (in), 49 P5.14 (in), 50 P5.15 (in), 51 P2.12 (io), 52 P2.11 (io), 53 P11.5 (io), 55 P2.0 (io), 56 P2.1 (io), 57 P11.4 (io), 58 P2.2 (io), 59 P11.3 (io), 60 P4.0 (io), 61 P2.3 (io), 62 P11.2 (io), 63 P4.1 (io), 64 P2.4 (io), 65 P11.1 (io), 66 P11.0 (io), 67 P2.5 (io), 68 P4.2 (io), 69 P2.6 (io), 70 P4.4 (io), 71 P4.3 (io), 75 P0.0 (io), 76 P4.5 (io), 77 P4.6 (io), 78 P2.7 (io), 79 P0.1 (io), 80 P2.8 (io), 81 P4.7 (io), 82 P2.9 (io), 83 P0.2 (io), 84 P10.0 (io), 85 P3.0 (io), 86 P10.1 (io), 87 P0.3 (io), 88 P3.1 (io), 89 P10.2 (io), 90 P0.4 (io), 92 P2.13 (io), 93 P3.2 (io), 94 P2.10 (io), 95 P10.3 (io), 96 P0.5 (io), 97 P3.3 (io), 98 P10.4 (io), 99 P3.4 (io), 100 P10.5 (io), 101 P3.5 (io), 102 P0.6 (io), 103 P10.6 (io), 104 P3.6 (io), 105 P10.7 (io), 106 P0.7 (io), 107 P3.7 (io), 111 P1.0 (io), 112 P9.0 (io), 113 P10.8 (io), 114 P9.1 (io), 115 P10.9 (io), 116 P1.1 (io), 117 P10.10 (io), 118 P10.11 (io), 119 P9.2 (io), 120 P1.2 (io), 121 P10.12 (io), 122 P9.3 (io), 123 P10.13 (io), 124 P1.3 (io), 125 P9.4 (io), 126 P9.5 (io), 128 P10.14 (io), 129 P1.4 (io), 130 P10.15 (io), 131 P1.5 (io), 132 P9.6 (io), 133 P1.6 (io), 134 P9.7 (io), 135 P1.7 (io), 142 P8.6 (io), 143 P8.5 (io)
part B pins: 3 ~{TESTM} (in) "Testmode Enable", 6 ~{TRST} (in) "Test-System Reset Input", 136 XTAL2 "Crystal Oscillator Amplifier Output", 137 XTAL1, 138 ~{PORST} (in) "Power On Reset Input", 139 ~{ESR1} (io), 140 ~{ESR2} (io), 141 ~{ESR0} (io)
part C pins: 1 VSS (power) "Digital Ground", 2 VDDPB (power) "Digital Pad Supply Voltage for Domain B", 14 VDDI1 (power) "Digital Core Supply Voltage for Domain 1", 15 VDDIM (power) "Digital Core Supply Voltage for Domain M", 20 VDDPA (power) "Digital Pad Supply Voltage for Domain A", 29 VAREF1 (power) "Reference Voltage for A/D Converter ADC1", 30 VAREF0 (power) "Reference Voltage for A/D Converter ADC0", 31 VAGND (power) "Reference Ground for A/D Converters ADC0/1", 36 VDDPB (power) "Digital Pad Supply Voltage for Domain B", 37 VSS (power) "Digital Ground", 38 VDDPB (power) "Digital Pad Supply Voltage for Domain B", 54 VDDI1 (power) "Digital Core Supply Voltage for Domain 1", 72 VDDPB (power) "Digital Pad Supply Voltage for Domain B", 73 VSS (power) "Digital Ground", 74 VDDPB (power) "Digital Pad Supply Voltage for Domain B", 91 VDDI1 (power) "Digital Core Supply Voltage for Domain 1", 108 VDDPB (power) "Digital Pad Supply Voltage for Domain B", 109 VSS (power) "Digital Ground", 110 VDDPB (power) "Digital Pad Supply Voltage for Domain B", 127 VDDI1 (power) "Digital Core Supply Voltage for Domain 1", 144 VDDPB (power) "Digital Pad Supply Voltage for Domain B", 145 EP (power) "Connected internally to VSS."

## SAK-XC2288I-136F128L AA
designator U?
128 MHz XC2000 MCU with 1088 KByte Program Memory, 90 KByte SRAM, 3.3 V,5 V, -40 to 125 degC, PG-LQFP-144, Reel, Green; Manufacturer: Infineon; PartNumber: SAK-XC2288I-136F128L AA; A / D input lines (incl. FADC): 28; CAN Nodes: 6; Digital I/O Lines: 118; DMA Channels: 16; DSP functionality (e.g MDU/MAC): TRUE; FlexRayTM: FLASE; Instruction width [bits]: 16/32; Max Clock Frequency: 128 MHz; Number of ADC Modules: 2; Power Modes: 3; Program Memory: 1,088 KByte; Serial I/O Interfaces: 10; Timed I/O Pins (PWM-Ch,CAPCOM): up to 44; Timer / Counter: 17; Type of Memory: Flash; Type of Serial I/O Interfaces: UART, SPI, I2C, I2S, LIN, CAN; DatasheetVersion: Rev. 1.2; PackageVersion: Rev. 06; PackageReference: PG-LQFP-144-16-7500X7500TP; PackageDescription: 144-Pin Plastic (Green) Low Profile Quad Flat Package, 20 x 20 mm Body, 0.5 mm Pitch; E2PROM Emulation (Data-Flash): TRUE; External Bus interface: TRUE; Green: TRUE; Halogen-free: TRUE; I/O Operation Voltages: 3.3 V,5 V; On-chip clock generation: TRUE; On-chip Voltage Regulator: TRUE; Oscillator Watchdog: TRUE; Packing: Reel; Real Time Clock (RTC): TRUE; SRAM (incl. Cache): 90 KByte; Watchdog Timer: TRUE; Mounting Technology: Surface Mount; ComponentLink1Description: Manufacturer URL; ComponentLink1URL: http://www.infineon.com/; ComponentLink2Description: Datasheet; ComponentLink2URL: http://www.infineon.com/dgdl/xc228xi_ds_V1.2_2012_06.pdf?folderId=db3a3043132679fb01133eb909a307c3&fileId=db3a304333227b5e0133404db62c1cd4; ComponentLink3Description: Package Specification; ComponentLink3URL: http://www.infineon.com/cms/packages/SMD_-_Surface_Mounted_Devices/P-PG-LQFP/P-PG-LQFP-144-04x_13x_14x_15x_16x_18x_23.html?__locale=en
footprint INF-PG-LQFP-144-16-7500X7500TP_V (QFP, 144-Leads, Body 20x20mm, Pitch 0.5mm, Thermal Pad 7.5x7.5mm)
part A pins: 32 P5.0 (in), 33 P5.1 (in), 34 P5.2 (in), 35 P5.3 (in), 39 P5.4 (in), 40 P5.5 (in), 41 P5.6 (in), 42 P5.7 (in), 43 P5.8 (in), 44 P5.9 (in), 45 P5.10 (in), 46 P5.11 (in), 47 P5.12 (in), 48 P5.13 (in), 49 P5.14 (in), 50 P5.15 (in), 51 P2.12 (io), 52 P2.11 (io), 55 P2.0 (io), 56 P2.1 (io), 58 P2.2 (io), 60 P4.0 (io), 61 P2.3 (io), 63 P4.1 (io), 64 P2.4 (io), 67 P2.5 (io), 68 P4.2 (io), 69 P2.6 (io), 70 P4.4 (io), 71 P4.3 (io), 75 P0.0 (io), 76 P4.5 (io), 77 P4.6 (io), 78 P2.7 (io), 79 P0.1 (io), 80 P2.8 (io), 81 P4.7 (io), 82 P2.9 (io), 83 P0.2 (io), 85 P3.0 (io), 87 P0.3 (io), 88 P3.1 (io), 90 P0.4 (io), 92 P2.13 (io), 93 P3.2 (io), 94 P2.10 (io), 96 P0.5 (io), 97 P3.3 (io), 99 P3.4 (io), 101 P3.5 (io), 102 P0.6 (io), 104 P3.6 (io), 106 P0.7 (io), 107 P3.7 (io), 111 P1.0 (io), 116 P1.1 (io), 120 P1.2 (io), 124 P1.3 (io), 129 P1.4 (io), 131 P1.5 (io), 133 P1.6 (io), 135 P1.7 (io)
part B pins: 3 ~{TESTM} (in) "Testmode Enable", 4 P7.2 (io), 5 P8.4 (io), 6 ~{TRST} (in) "Test-System Reset Input", 7 P8.3 (io), 8 P7.0 (io), 9 P7.3 (io), 10 P8.2 (io), 11 P7.1 (io), 12 P7.4 (io), 13 P8.1 (io), 16 P6.0 (io), 17 P6.1 (io), 18 P6.2 (io), 19 P6.3 (io), 21 P15.0 (in), 22 P15.1 (in), 23 P15.2 (in), 24 P15.3 (in), 25 P15.4 (in), 26 P15.5 (in), 27 P15.6 (in), 28 P15.7 (in), 53 P11.5 (io), 57 P11.4 (io), 59 P11.3 (io), 62 P11.2 (io), 65 P11.1 (io), 66 P11.0 (io), 84 P10.0 (io), 86 P10.1 (io), 89 P10.2 (io), 95 P10.3 (io), 98 P10.4 (io), 100 P10.5 (io), 103 P10.6 (io), 105 P10.7 (io), 112 P9.0 (io), 113 P10.8 (io), 114 P9.1 (io), 115 P10.9 (io), 117 P10.10 (io), 118 P10.11 (io), 119 P9.2 (io), 121 P10.12 (io), 122 P9.3 (io), 123 P10.13 (io), 125 P9.4 (io), 126 P9.5 (io), 128 P10.14 (io), 130 P10.15 (io), 132 P9.6 (io), 134 P9.7 (io), 136 XTAL2 "Crystal Oscillator Amplifier Output", 137 XTAL1, 138 ~{PORST} (in) "Power On Reset Input", 139 ~{ESR1} (io), 140 ~{ESR2} (io), 141 ~{ESR0} (io), 142 P8.6 (io), 143 P8.5 (io)
part C pins: 1 VSS (power) "Digital Ground", 2 VDDPB (power) "Digital Pad Supply Voltage for Domain B", 14 VDDI1 (power) "Digital Core Supply Voltage for Domain 1", 15 VDDIM (power) "Digital Core Supply Voltage for Domain M", 20 VDDPA (power) "Digital Pad Supply Voltage for Domain A", 29 VAREF1 (power) "Reference Voltage for A/D Converter ADC1", 30 VAREF0 (power) "Reference Voltage for A/D Converter ADC0", 31 VAGND (power) "Reference Ground for A/D Converters ADC0/1", 36 VDDPB (power) "Digital Pad Supply Voltage for Domain B", 37 VSS (power) "Digital Ground", 38 VDDPB (power) "Digital Pad Supply Voltage for Domain B", 54 VDDI1 (power) "Digital Core Supply Voltage for Domain 1", 72 VDDPB (power) "Digital Pad Supply Voltage for Domain B", 73 VSS (power) "Digital Ground", 74 VDDPB (power) "Digital Pad Supply Voltage for Domain B", 91 VDDI1 (power) "Digital Core Supply Voltage for Domain 1", 108 VDDPB (power) "Digital Pad Supply Voltage for Domain B", 109 VSS (power) "Digital Ground", 110 VDDPB (power) "Digital Pad Supply Voltage for Domain B", 127 VDDI1 (power) "Digital Core Supply Voltage for Domain 1", 144 VDDPB (power) "Digital Pad Supply Voltage for Domain B", 145 EP (power)

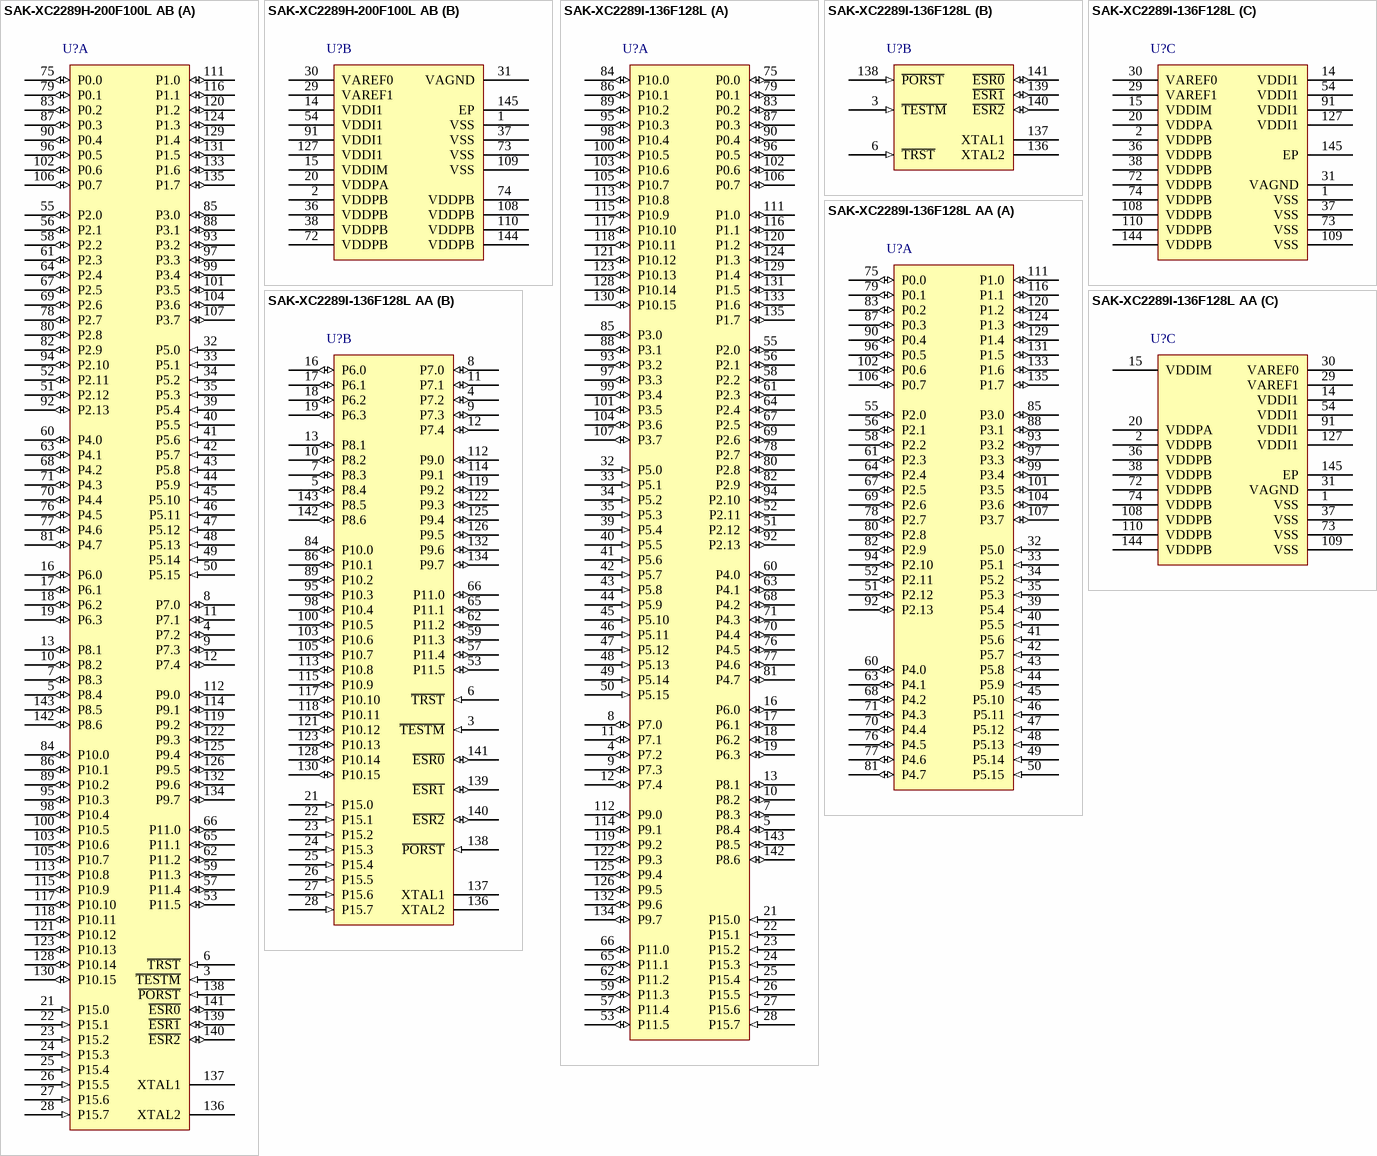
[diagram p82: symbols SAK-XC2289H-200F100L AB to SAK-XC2289I-136F128L AA]